# Altium schematic symbol library YAGEO-RC-Series.SchLib: 1 symbol
Pins are listed as number, name and electrical type; pins without a type are passive.

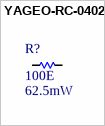
[diagram p0: symbol YAGEO-RC-0402]

## YAGEO-RC-0402
designator R?, comment value 100E  Value2: 62.5mW  (hidden comment: 0402FR-07100RL)
SMD Resistor; ToleranceCode: F; PackagingTypeCode: R; TapingReelAndPower: 07; DefaultCode: L; ResistanceCode: 100R; Size: 0402; TemperatureCoefficientCode: -
footprint RC0402 (Chip Resistor, 2-Leads, Body 1.00x0.50mm, IPC High Density)
pins: 1, 2